# Altium footprint library SnapEDApcb.PcbLib: 1 footprints
Each footprint in its own frame and in the unit in brackets; x right, y up, seen from the top. Pads: shape width x height; smd on the part's side, far side on the other; paste and mask are expansions set on the pad; w line width, h text height; cw(c..) or ccw(c..) is an arc to the next point about the centre after c.
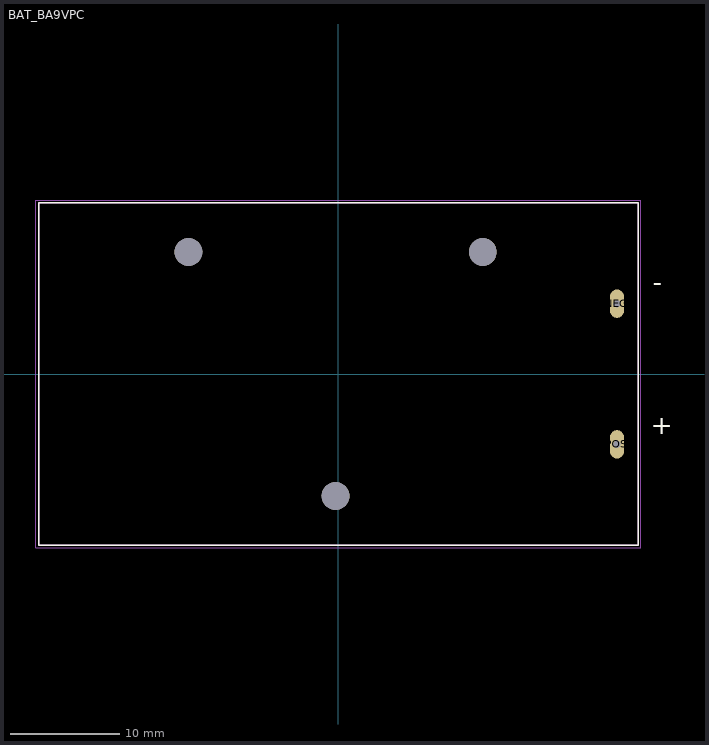
[diagram p0: the footprint, top view; thin cyan lines are the x and y axes]

## BAT_BA9VPC [mm]
pads (5):
  oval 1.3x2.6 hole 0.66 square: NEG(25.52,6.44) POS(25.52,-6.44)
  round 2.54 hole 2.54 unplated: ""(-13.74,11.18) ""(-0.26,-11.17) ""(13.23,11.18)
Top Overlay:
  lines w0.127: -27.47,-15.685 27.47,-15.685 27.47,15.685 -27.47,15.685 -27.47,-15.685
  text "+" at 28.6,-5.5 h1.78
  text "-" at 28.8,7.6 h1.78
Mechanical 13:
  lines w0.127: -27.47,-15.685 27.47,-15.685 27.47,15.685 -27.47,15.685 -27.47,-15.685
Mechanical 15:
  lines w0.05: -27.72,-15.935 27.72,-15.935 27.72,15.935 -27.72,15.935 -27.72,-15.935